# EAGLE library part IS61LV6416 (library IC)
ISSI IS61LV6416 64K x 16 High-speed CMOS static ram with 3.3V supply
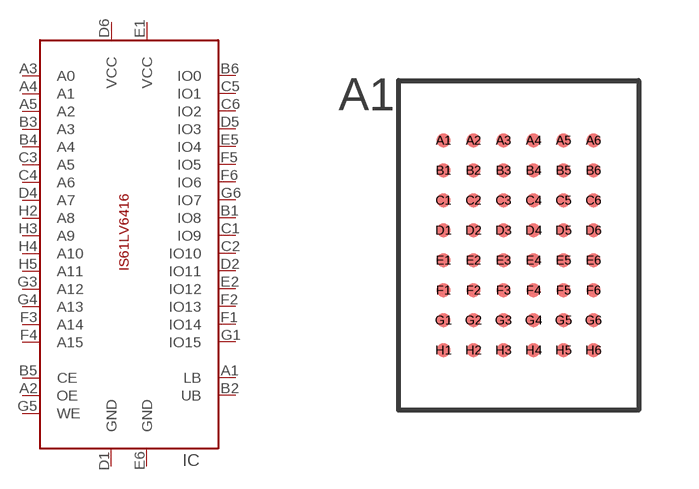
[diagram p46: symbol with the pads of MBGA-6X8; footprint MBGA-6X8]

Designator prefix IC

## IS61LV6416  [MBGA-6X8]
A1  LB
A2  OE
A3  A0
A4  A1
A5  A2
B1  IO8
B2  UB
B3  A3
B4  A4
B5  CE
B6  IO0
C1  IO9
C2  IO10
C3  A5
C4  A6
C5  IO1
C6  IO2
D1  GND
D2  IO11
D4  A7
D5  IO3
D6  VCC
E1  VCC
E2  IO12
E5  IO4
E6  GND
F1  IO14
F2  IO13
F3  A14
F4  A15
F5  IO5
F6  IO6
G1  IO15
G3  A12
G4  A13
G5  WE
G6  IO7
H2  A8
H3  A9
H4  A10
H5  A11

## Footprint MBGA-6X8 (pad centres in mm)
48 pin Mini Ball Grid Array 6mm x 8mm
smd 0.35 x 0.35: A1 -1.8,2.55; A2 -1.05,2.55; A3 -0.3,2.55; A4 0.45,2.55; A5 1.2,2.55; A6 1.95,2.55; B1 -1.8,1.8; B2 -1.05,1.8; B3 -0.3,1.8; B4 0.45,1.8; B5 1.2,1.8; B6 1.95,1.8; C1 -1.8,1.05; C2 -1.05,1.05; C3 -0.3,1.05; C4 0.45,1.05; C5 1.2,1.05; C6 1.95,1.05; D1 -1.8,0.3; D2 -1.05,0.3; D3 -0.3,0.3; D4 0.45,0.3; D5 1.2,0.3; D6 1.95,0.3; E1 -1.8,-0.45; E2 -1.05,-0.45; E3 -0.3,-0.45; E4 0.45,-0.45; E5 1.2,-0.45; E6 1.95,-0.45; F1 -1.8,-1.2; F2 -1.05,-1.2; F3 -0.3,-1.2; F4 0.45,-1.2; F5 1.2,-1.2; F6 1.95,-1.2; G1 -1.8,-1.95; G2 -1.05,-1.95; G3 -0.3,-1.95; G4 0.45,-1.95; G5 1.2,-1.95; G6 1.95,-1.95; H1 -1.8,-2.7; H2 -1.05,-2.7; H3 -0.3,-2.7; H4 0.45,-2.7; H5 1.2,-2.7; H6 1.95,-2.7